# Altium schematic symbol library Sch_DRV8833.SchLib: 1 symbol
Pins are listed as number, name and electrical type; pins without a type are passive.

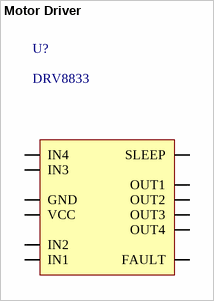
[diagram p0: symbol Motor Driver]

## Motor Driver
designator U?, comment DRV8833  (no BOM)
Драйвер крокового/колекторних двигунів DRV8833
footprint PCB_DRV8833
pins: 0 IN1, 1 IN2, 2 VCC (power), 3 GND (power), 4 IN3, 5 IN4, 6 SLEEP, 7 OUT1, 8 OUT2, 9 OUT3, 10 OUT4, 11 FAULT